# Altium footprint library MOLEX NANOFIT 5POS.PcbLib: 1 footprints
Each footprint in its own frame and in the unit in brackets; x right, y up, seen from the top. Pads: shape width x height; smd on the part's side, far side on the other; paste and mask are expansions set on the pad; w line width, h text height; cw(c..) or ccw(c..) is an arc to the next point about the centre after c.
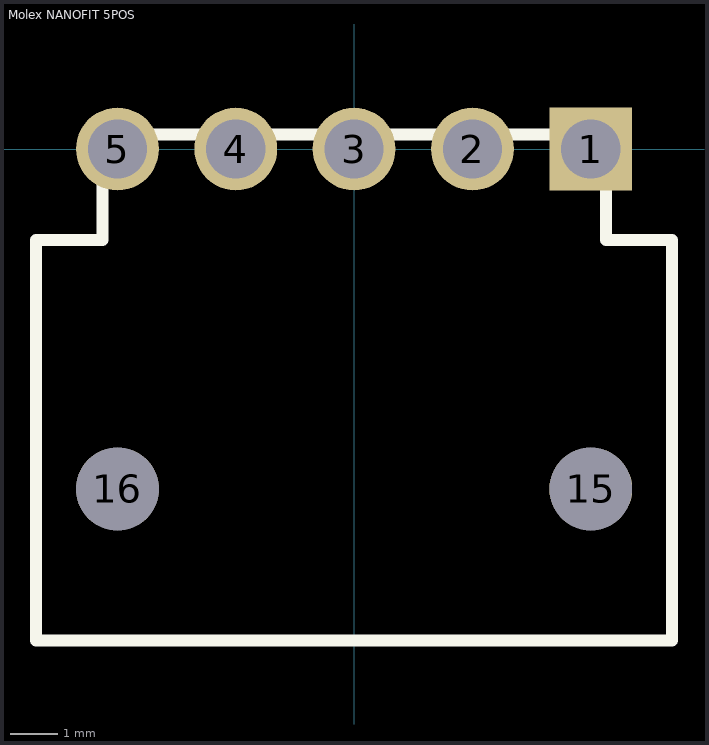
[diagram p0: the footprint, top view; thin cyan lines are the x and y axes]

## Molex NANOFIT 5POS [mm]
pads (7):
  rect 1.75x1.75 hole 1.25: 1(5,0)
  round 1.75 hole 1.25: 2(2.5,0) 3(0,0) 4(-2.5,0) 5(-5,0)
  round 1.75 hole 1.75: 15(5,-7.18) 16(-5,-7.18)
Top Overlay:
  lines w0.254: -6.725,-1.92 -6.72,-10.38 6.72,-10.38 6.72,-1.92 5.32,-1.92 5.32,0.32 ; -6.72,-1.92 -5.32,-1.92 -5.32,0.31 5.32,0.31
Keep-Out Layer:
  board cut-out: -4.318,-3.81
  board cut-out: -2.794,-2.667
Mechanical 1:
  region: -5.325,0.325
3D body: height 3.78, standoff 0, extent -6.725,-10.375 6.715,-1.915
3D body: height 0.25, standoff 0, extent -0.01,-10.31 -0.01,-10.31
3D body: height 6.64, standoff 0, extent -2.6,-10.38 2.6,-5.38